# Altium schematic symbol library SCH - POWER - SWITCHMODE - TI TPS61022.SCHLIB: 1 symbol
Pins are listed as number, name and electrical type; pins without a type are passive.

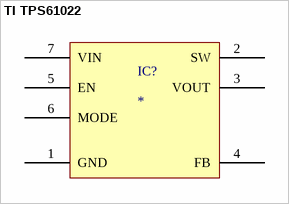
[diagram p0: symbol TI TPS61022]

## TI TPS61022
designator IC?
pins: 1 GND, 2 SW, 3 VOUT, 4 FB, 5 EN, 6 MODE, 7 VIN